# Altium footprint library tft-lcd.PcbLib: 2 footprints
Each footprint in its own frame and in the unit in brackets; x right, y up, seen from the top. Pads: shape width x height; smd on the part's side, far side on the other; paste and mask are expansions set on the pad; w line width, h text height; cw(c..) or ccw(c..) is an arc to the next point about the centre after c.
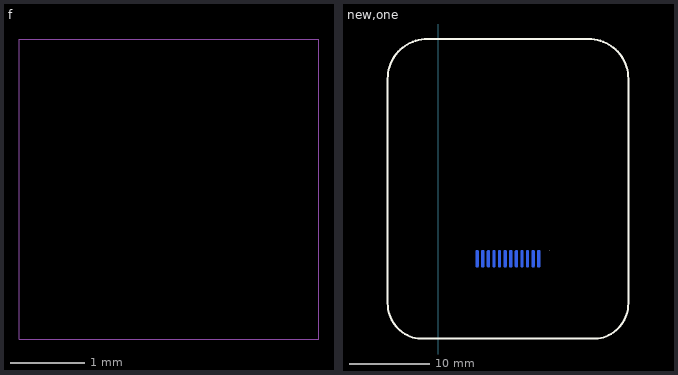
[diagram p0: the footprints below, top view; thin cyan lines are the x and y axes]

## f [mm]
Mechanical 1:
  lines w0.013: 481.947,187.786 481.947,191.786 485.947,191.786 485.947,187.786 481.947,187.786

## new,one [mm]
pads (12):
  oval 0.35x2.159 smd far side: 1(12.542,16.261) 2(11.842,16.261) 3(11.142,16.261) 4(10.442,16.261) 5(9.742,16.261) 6(9.042,16.261) 7(8.342,16.261) 8(7.642,16.261) 9(6.942,16.261) 10(6.242,16.261) 11(5.542,16.261) 12(4.842,16.261)
Top Overlay:
  circle w0.006: c13.895,17.246 r0.003
  lines w0.013: -0.483,6.321 19.687,6.321
  lines w0.254: -6.34,10.683 ccw(c-1.89,10.683) -2.555,6.283 19.945,6.283 ccw(c19.28,10.683) 23.73,10.683 23.73,38.767 ccw(c18.78,38.767) 18.78,43.717 -1.39,43.717 ccw(c-1.39,38.767) -6.34,38.767 -6.34,10.683
Bottom Overlay:
  circle w0.254: c13.487,17.932 r0.29
  circle w0.254: c13.513,17.983 r0.114
  circle w0.15: c3.395,13.246 r0.5
  circle w0.15: c13.395,13.246 r0.5
  lines w0.15: 0.369,6.321 0.369,13.429 cw(c0.869,13.429) 0.869,13.929 2.495,13.929 ccw(c2.495,14.429) 2.995,14.429 2.995,16.746 cw(c3.495,16.746) 3.495,17.246 13.895,17.246 cw(c13.895,16.746) 14.395,16.746 14.395,6.248 ; 3.845,15.846 3.845,17.246 3.845,15.546 ccw(c4.145,15.546) 4.145,15.246 13.245,15.246 ccw(c13.245,15.546) 13.545,15.546 13.545,17.246 ; 13.67,17.246 13.545,17.246 ; 13.545,15.846 13.545,17.246 ; 13.545,15.846 13.545,17.246 ; 13.545,15.846 13.545,17.246